# EAGLE library part KXN-CONNECTORS_USB_C (library kxnStandard_connector)
USB Type C 16Pin Connector Super Speed pins not available on the 16-pin purely SMD connector so this part is best for USB 2.0 implementations. D1 and D2 are tied together enabling D+/- no matter which way the cable is plugged into the connector. The two channel configuration pins (CC1/2) are exposed. These are normally connected to ground via 5.1k resistors but can be reconfigured for high current/high power applications. **4-LAYER BOARD WARNING!!** If designing 4-layer board, make sure to select the variant _4-LAYER-ISOLATED. The linked footprint (USB-C-16-4LAYER-ISOLATED) includes some very necessary cutout polygons in the inner layers (2 and 15). This prevents the PTH mounting shield legs on the USB connector from electrically connecting any other polygons on the inner layers (usually VCC and GND).
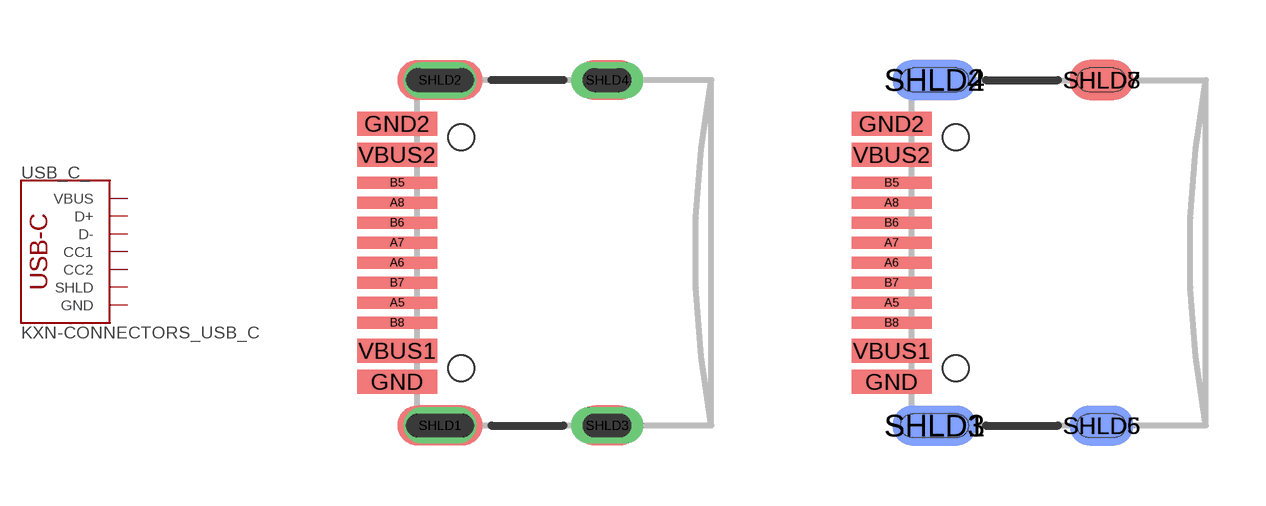
[diagram p10: symbol with the pads of SPARKFUN-CONNECTORS_USB-C-16P-2LAYER-PADS; footprints SPARKFUN-CONNECTORS_USB-C-16P-2LAYER-PADS, SPARKFUN-CONNECTORS_USB-C-16P-4LAYER-ISOLATED]

Designator prefix USB_C_

## KXN-CONNECTORS_USB_C_2-LAYER_PADS (CC_SHOP: CongCo; PROD_ID: CONN-14122)  [SPARKFUN-CONNECTORS_USB-C-16P-2LAYER-PADS]
A5  CC1
A6  D+
A7  D-
B5  CC2
B6  D+
B7  D-
GND  GND
GND2  GND
SHLD1  SHLD
SHLD2  SHLD
SHLD3  SHLD
SHLD4  SHLD
VBUS1  VBUS
VBUS2  VBUS

## KXN-CONNECTORS_USB_C_4-LAYER-ISOLATED (CC_SHOP: CongCo; PROD_ID: CONN-14122; VALUE: USB Female Type C Connector)  [SPARKFUN-CONNECTORS_USB-C-16P-4LAYER-ISOLATED]
A5  CC1
A6  D+
A7  D-
B5  CC2
B6  D+
B7  D-
GND  GND
GND2  GND
SHLD1  SHLD
SHLD2  SHLD
SHLD3  SHLD
SHLD4  SHLD
SHLD5  SHLD
SHLD6  SHLD
SHLD7  SHLD
SHLD8  SHLD
VBUS1  VBUS
VBUS2  VBUS

## KXN-CONNECTORS_USB_C_4-LAYER_PADS (CC_SHOP: CongCo; PROD_ID: CONN-14122)  [SPARKFUN-CONNECTORS_USB-C-16P_4LAYER-PADS]
Pads as for SPARKFUN-CONNECTORS_USB-C-16P-2LAYER-PADS

## KXN-CONNECTORS_USB_C_2-LAYER_PADS_KXN (CC_COST: 0.25; CC_ID: 573090887123; CC_LINK: https://item.taobao.com/item.htm?id=573090887123&skuId=5770750381254; CC_OPTION: Type-C母座_16P_4脚插板_黑色; CC_SHOP: CongCo; INFO: USB type C Female 16P 4pin Plate_Black; JLC_PART_COST: 0.0642; JLC_PART_ID: C393939; JLC_PART_LINK: https://jlcpcb.com/partdetail/ShouHan-TYPEC16PIN/C393939; KXN_ID: SAusbc0001; LINK_MH: https://banlinhkien.com/usb-3.1-typec-loai-cai-16p-han-dan-p15868099.html; VALUE: USB_C_16P)  [KXN_SPARKFUN-CONNECTORS_USB-C-16P-2LAYER-PADS]
A5  CC1
A6  D+
A7  D-
B5  CC2
B6  D+
B7  D-
GND  GND
GND2  GND
P$1  GND
P$2  GND
P$3  GND
P$4  GND
SHLD1  SHLD
SHLD2  SHLD
SHLD3  SHLD
SHLD4  SHLD
VBUS1  VBUS
VBUS2  VBUS

## Footprint SPARKFUN-CONNECTORS_USB-C-16P-2LAYER-PADS (pad centres in mm)
https://item.taobao.com/item.htm?spm=a1z10.3-c-s.w4002-21223910208.13.3f156a4bWrrOMV&id=573090887123
smd 2 x 0.3: A5 -3.97,-1.25; A6 -3.97,-0.25; A7 -3.97,0.25; A8 -3.97,1.25; B5 -3.97,1.75; B6 -3.97,0.75; B7 -3.97,-0.75; B8 -3.97,-1.75
smd 2 x 0.6: GND -3.97,-3.225; GND2 -3.97,3.225; VBUS1 -3.97,-2.45; VBUS2 -3.97,2.45
drill 0.4 pad 0.6 long: SHLD1 -2.895,-4.318; SHLD2 -2.895,4.318; SHLD3 1.285,-4.318; SHLD4 1.285,4.318
hole 0.65 at -2.365,-2.89
hole 0.65 at -2.365,2.89

## Footprint SPARKFUN-CONNECTORS_USB-C-16P-4LAYER-ISOLATED (pad centres in mm)
smd 2 x 0.3: A5 -3.97,-1.252; A6 -3.97,-0.252; A7 -3.97,0.248; A8 -3.97,1.248; B5 -3.97,1.748; B6 -3.97,0.748; B7 -3.97,-0.752; B8 -3.97,-1.752
smd 2 x 0.6: GND -3.97,-3.227; GND2 -3.97,3.223; VBUS1 -3.97,-2.452; VBUS2 -3.97,2.448
smd 2.1 x 1: SHLD1 -2.895,-4.322; SHLD2 -2.895,4.318
smd 2.1 x 1 bottom: SHLD3 -2.895,-4.322; SHLD4 -2.895,4.318
smd 1.6 x 1: SHLD5 1.285,-4.322; SHLD8 1.285,4.318
smd 1.6 x 1 bottom: SHLD6 1.285,-4.322; SHLD7 1.285,4.318
hole 0.65 at -2.365,-2.892
hole 0.65 at -2.365,2.888

## Footprint SPARKFUN-CONNECTORS_USB-C-16P_4LAYER-PADS (pad centres in mm)
smd 2 x 0.3: A5 -3.97,-1.252; A6 -3.97,-0.252; A7 -3.97,0.248; A8 -3.97,1.248; B5 -3.97,1.748; B6 -3.97,0.748; B7 -3.97,-0.752; B8 -3.97,-1.752
smd 2 x 0.6: GND -3.97,-3.227; GND2 -3.97,3.223; VBUS1 -3.97,-2.452; VBUS2 -3.97,2.448
drill 0.4 pad 0.6 long: SHLD1 -2.895,-4.32; SHLD2 -2.895,4.316; SHLD3 1.285,-4.32; SHLD4 1.285,4.316
hole 0.65 at -2.365,-2.892
hole 0.65 at -2.365,2.888

## Footprint KXN_SPARKFUN-CONNECTORS_USB-C-16P-2LAYER-PADS (pad centres in mm)
smd 2 x 0.3: A5 -3.97,-1.25; A6 -3.97,-0.25; A7 -3.97,0.25; A8 -3.97,1.25; B5 -3.97,1.75; B6 -3.97,0.75; B7 -3.97,-0.75; B8 -3.97,-1.75
smd 2 x 0.6: GND -3.97,-3.225; GND2 -3.97,3.225; VBUS1 -3.97,-2.45; VBUS2 -3.97,2.45
smd 1.27 x 0.635: P$1 -2.9,5; P$2 1.3,5; P$3 -2.9,-5; P$4 1.3,-5
drill 0.4 pad 0.6 long: SHLD1 -2.895,-4.318; SHLD2 -2.895,4.318; SHLD3 1.285,-4.318; SHLD4 1.285,4.318
hole 0.65 at -2.365,-2.89
hole 0.65 at -2.365,2.89